# EAGLE library part STM8AF6223PDU (library BLDCBOMv4)
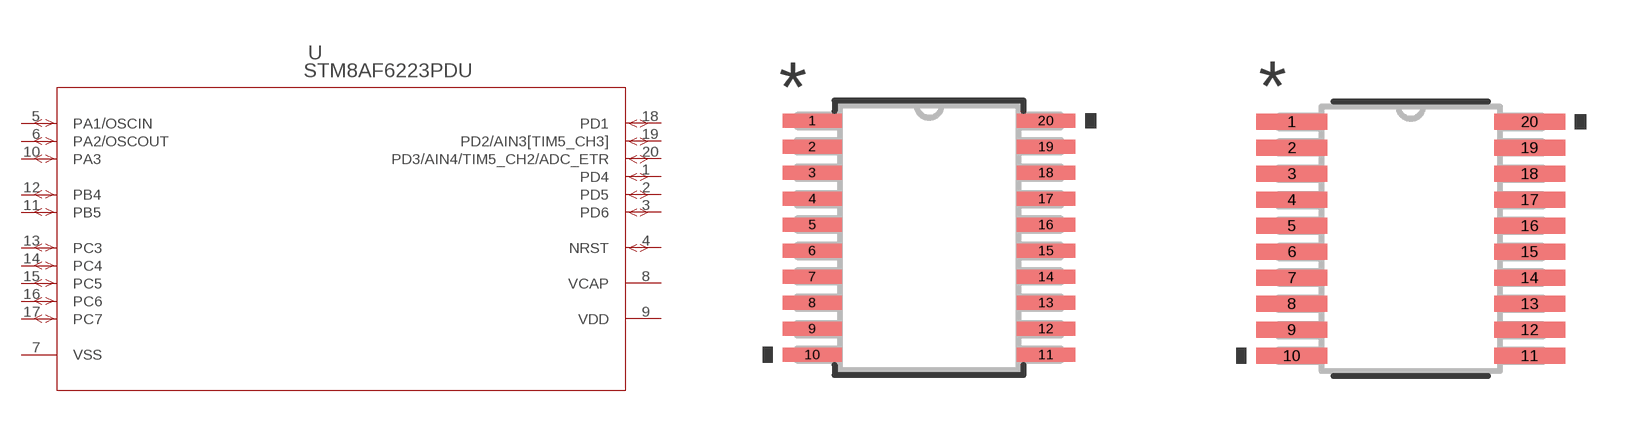
[diagram p1: symbol with the pads of TSSOP20; footprints TSSOP20, TSSOP20-M]

Designator prefix U

## STM8AF6223PDU (COPYRIGHT: Copyright (C) 2016 Accelerated Designs. All rights reserved; MANUFACTURER_PART_NUMBER: STM8AF62X3; VENDOR: STMicroelectronics)  [TSSOP20]
1  PD4
2  PD5
3  PD6
4  NRST
5  PA1/OSCIN
6  PA2/OSCOUT
7  VSS  pwr
8  VCAP  pwr
9  VDD  pwr
10  PA3
11  PB5
12  PB4
13  PC3
14  PC4
15  PC5
16  PC6
17  PC7
18  PD1
19  PD2/AIN3[TIM5_CH3]
20  PD3/AIN4/TIM5_CH2/ADC_ETR

## STM8AF6223PDUTSSOP20-M (COPYRIGHT: Copyright (C) 2016 Accelerated Designs. All rights reserved; MANUFACTURER_PART_NUMBER: STM8AF62X3; VENDOR: STMicroelectronics)  [TSSOP20-M]
Pads as for TSSOP20

## STM8AF6223PDUTSSOP20-L (COPYRIGHT: Copyright (C) 2016 Accelerated Designs. All rights reserved; MANUFACTURER_PART_NUMBER: STM8AF62X3; VENDOR: STMicroelectronics)  [TSSOP20-L]
Pads as for TSSOP20

## Footprint TSSOP20 (pad centres in mm)
smd 1.473 x 0.356: 1 -2.921,2.925; 2 -2.921,2.275; 3 -2.921,1.625; 4 -2.921,0.975; 5 -2.921,0.325; 6 -2.921,-0.325; 7 -2.921,-0.975; 8 -2.921,-1.625; 9 -2.921,-2.275; 10 -2.921,-2.925; 11 2.921,-2.925; 12 2.921,-2.275; 13 2.921,-1.625; 14 2.921,-0.975; 15 2.921,-0.325; 16 2.921,0.325; 17 2.921,0.975; 18 2.921,1.625; 19 2.921,2.275; 20 2.921,2.925

## Footprint TSSOP20-M (pad centres in mm)
smd 1.778 x 0.406: 1 -2.972,2.925; 2 -2.972,2.275; 3 -2.972,1.625; 4 -2.972,0.975; 5 -2.972,0.325; 6 -2.972,-0.325; 7 -2.972,-0.975; 8 -2.972,-1.625; 9 -2.972,-2.275; 10 -2.972,-2.925; 11 2.972,-2.925; 12 2.972,-2.275; 13 2.972,-1.625; 14 2.972,-0.975; 15 2.972,-0.325; 16 2.972,0.325; 17 2.972,0.975; 18 2.972,1.625; 19 2.972,2.275; 20 2.972,2.925

## Footprint TSSOP20-L (pad centres in mm)
smd 1.168 x 0.305: 1 -2.87,2.925; 2 -2.87,2.275; 3 -2.87,1.625; 4 -2.87,0.975; 5 -2.87,0.325; 6 -2.87,-0.325; 7 -2.87,-0.975; 8 -2.87,-1.625; 9 -2.87,-2.275; 10 -2.87,-2.925; 11 2.87,-2.925; 12 2.87,-2.275; 13 2.87,-1.625; 14 2.87,-0.975; 15 2.87,-0.325; 16 2.87,0.325; 17 2.87,0.975; 18 2.87,1.625; 19 2.87,2.275; 20 2.87,2.925